# Altium schematic symbol library JETSON XAVIER NX.SchLib: 1 symbol
Pins are listed as number, name and electrical type; pins without a type are passive.

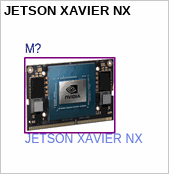
[diagram p0: symbol JETSON XAVIER NX]

## JETSON XAVIER NX
designator M?  Manufacture Part Number: JETSON XAVIER NX  (hidden comment: *)